# Altium footprint library SHUNT_L-STD.PcbLib: 1 footprints
Each footprint in its own frame and in the unit in brackets; x right, y up, seen from the top. Pads: shape width x height; smd on the part's side, far side on the other; paste and mask are expansions set on the pad; w line width, h text height; cw(c..) or ccw(c..) is an arc to the next point about the centre after c.
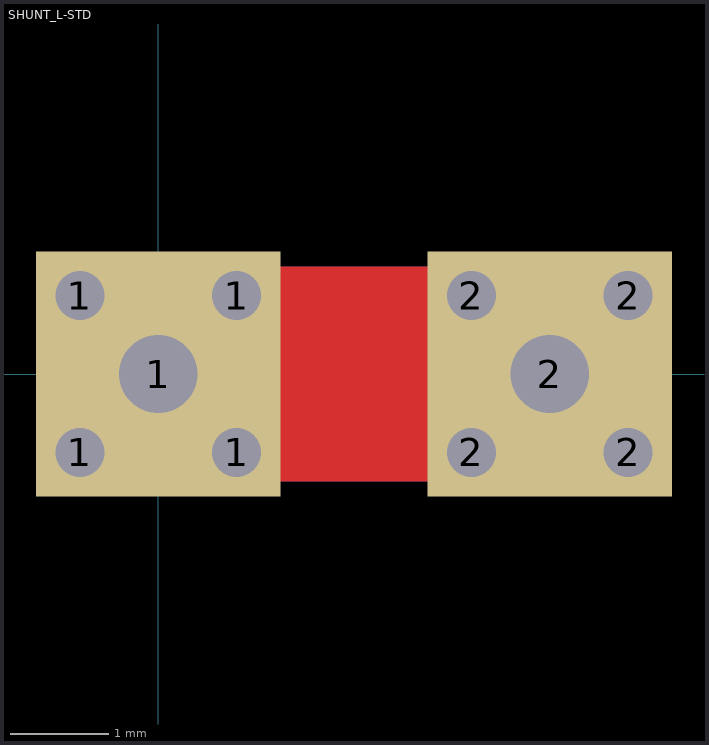
[diagram p0: the footprint, top view; thin cyan lines are the x and y axes]

## SHUNT_L-STD [mm]
pads (10):
  round 0.8 hole 0.5: 1(-0.8,-0.8) 1(-0.8,0.8) 1(0.8,-0.8) 1(0.8,0.8) 2(3.2,-0.8) 2(3.2,0.8) 2(4.8,-0.8) 2(4.8,0.8)
  rect 2.5x2.5 hole 0.8: 1(0,0) 2(4,0)
Top Layer:
  lines w2.2: 0,0 4,0
Bottom Layer:
  lines w2.2: 0,0 4,0